# Altium footprint library samtec-tsm.PcbLib: 9 footprints
Each footprint in its own frame and in the unit in brackets; x right, y up, seen from the top. Pads: shape width x height; smd on the part's side, far side on the other; paste and mask are expansions set on the pad; w line width, h text height; cw(c..) or ccw(c..) is an arc to the next point about the centre after c.
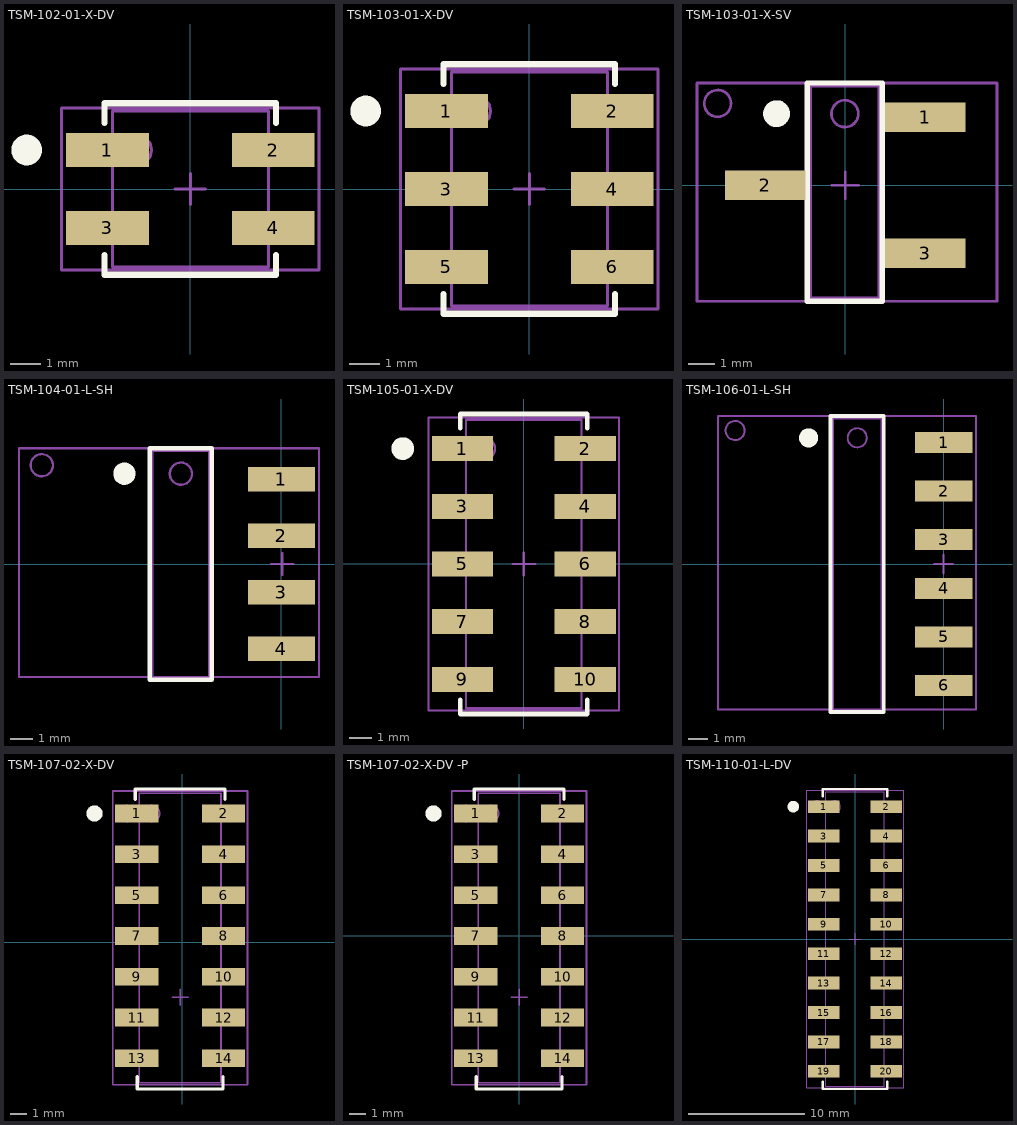
[diagram p0: the footprints below, top view; thin cyan lines are the x and y axes]

## TSM-102-01-X-DV [mm] "4pos, 2.54mm, SMT HEADER"
height 9.65
pads (4):
  rect 2.7x1.1 smd: 1(-2.7,1.27) 2(2.7,1.27) 3(-2.7,-1.27) 4(2.7,-1.27)
Top Overlay:
  circle w0.5: c-5.33,1.27 r0.25
  lines w0.2: -2.794,-2.159 -2.794,-2.794 2.794,-2.794 2.794,-2.159 ; -2.794,2.159 -2.794,2.794 2.794,2.794 2.794,2.159
Mechanical 13:
  circle w0.1: c-1.77,1.27 r0.5
  lines w0.1: -0.5,0 0.5,0 ; 0,-0.5 0,0.5 ; -2.54,-2.54 -2.54,2.54 2.54,2.54 2.54,-2.54 -2.54,-2.54
Mechanical 15:
  circle w0.1: c-3.294,1.27 r0.5
  lines w0.1: -4.191,-2.64 -4.191,2.64 4.191,2.64 4.191,-2.64 -4.191,-2.64
  text ".Designator" at 0.1,-2.4 h0.5
3D body: height 9.67, standoff 0.02, extent -3.848,-2.54 3.848,2.54

## TSM-103-01-X-DV [mm] "6pos, 2.54mm, SMT HEADER"
height 9.65
pads (6):
  rect 2.7x1.1 smd: 1(-2.7,2.54) 2(2.7,2.54) 3(-2.7,0) 4(2.7,0) 5(-2.7,-2.54) 6(2.7,-2.54)
Top Overlay:
  circle w0.5: c-5.33,2.54 r0.25
  lines w0.2: -2.794,-3.429 -2.794,-4.064 2.794,-4.064 2.794,-3.429 ; -2.794,3.429 -2.794,4.064 2.794,4.064 2.794,3.429
Mechanical 13:
  circle w0.1: c-1.77,2.54 r0.5
  lines w0.1: -0.5,0 0.5,0 ; 0,-0.5 0,0.5 ; -2.54,-3.81 -2.54,3.81 2.54,3.81 2.54,-3.81 -2.54,-3.81
Mechanical 15:
  circle w0.1: c-3.294,2.54 r0.5
  lines w0.1: -4.191,-3.91 -4.191,3.91 4.191,3.91 4.191,-3.91 -4.191,-3.91
  text ".Designator" at 0.1,-2.4 h0.5
3D body: height 9.67, standoff 0.02, extent -3.848,-3.81 3.848,3.81

## TSM-103-01-X-SV [mm] "4pos, 2.54mm, SMT HEADER"
height 3.05
pads (3):
  rect 3x1.1 smd: 1(2.984,2.54) 2(-2.984,0) 3(2.984,-2.54)
Top Overlay:
  circle w0.5: c-2.559,2.667 r0.25
  lines w0.2: -1.421,-4.318 1.373,-4.318 1.373,3.81 -1.421,3.81 -1.421,-4.318
Mechanical 13:
  circle w0.1: c-0.015,2.667 r0.5
  lines w0.1: -0.5,0 0.5,0 ; 0,-0.5 0,0.5 ; -1.294,-4.191 1.246,-4.191 1.246,3.683 -1.294,3.683 -1.294,-4.191
Mechanical 15:
  circle w0.1: c-4.754,3.048 r0.5
  lines w0.1: -5.524,-4.318 5.651,-4.318 5.651,3.81 -5.524,3.81 -5.524,-4.318
  text ".Designator" at 0.064,-4.191 h0.5
3D body: height 9.67, standoff 0.02, extent -3.683,-3.937 3.683,3.683

## TSM-104-01-L-SH [mm] "4pos, 2.54mm, SMT HEADER"
height 3.05
pads (4):
  rect 3x1.1 smd: 1(0,3.81) 2(0,1.27) 3(0,-1.27) 4(0,-3.81)
Top Overlay:
  circle w0.5: c-7.068,4.064 r0.25
  lines w0.2: -5.929,-5.207 -3.135,-5.207 -3.135,5.207 -5.929,5.207 -5.929,-5.207
Mechanical 13:
  circle w0.1: c-4.524,4.064 r0.5
  lines w0.1: -0.46,0 0.54,0 ; 0.04,-0.5 0.04,0.5 ; -5.802,-5.08 -3.262,-5.08 -3.262,5.08 -5.802,5.08 -5.802,-5.08
Mechanical 15:
  circle w0.1: c-10.787,4.445 r0.5
  lines w0.1: -11.811,-5.08 1.691,-5.08 1.691,5.207 -11.811,5.207 -11.811,-5.08
  text ".Designator" at -4.445,-2.794 h0.5
3D body: height 3.06, standoff 0.02, extent -11.644,-5.08 1.31,5.08

## TSM-105-01-X-DV [mm] "10pos, 2.54mm, SMT HEADER"
height 9.65
pads (10):
  rect 2.7x1.1 smd: 1(-2.7,5.08) 2(2.7,5.08) 3(-2.7,2.54) 4(2.7,2.54) 5(-2.7,0) 6(2.7,0) 7(-2.7,-2.54) 8(2.7,-2.54) 9(-2.7,-5.08) 10(2.7,-5.08)
Top Overlay:
  circle w0.5: c-5.33,5.08 r0.25
  lines w0.2: -2.794,-5.969 -2.794,-6.604 2.794,-6.604 2.794,-5.969 ; -2.794,5.969 -2.794,6.604 2.794,6.604 2.794,5.969
Mechanical 13:
  circle w0.1: c-1.77,5.08 r0.5
  lines w0.1: -0.5,0 0.5,0 ; 0,-0.5 0,0.5 ; -2.54,-6.35 2.54,-6.35 2.54,6.35 -2.54,6.35 -2.54,-6.35
Mechanical 15:
  circle w0.1: c-3.294,5.08 r0.5
  lines w0.1: -4.191,-6.45 4.191,-6.45 4.191,6.45 -4.191,6.45 -4.191,-6.45
  text ".Designator" at 0.1,-2.4 h0.5
3D body: height 9.67, standoff 0.02, extent -3.848,-6.35 3.848,6.35

## TSM-106-01-L-SH [mm] "6pos, 2.54mm, SMT HEADER"
height 3.05
pads (6):
  rect 3x1.1 smd: 1(0,6.35) 2(0,3.81) 3(0,1.27) 4(0,-1.27) 5(0,-3.81) 6(0,-6.35)
Top Overlay:
  circle w0.5: c-7.068,6.604 r0.25
  lines w0.2: -5.929,-7.747 -3.135,-7.747 -3.135,7.747 -5.929,7.747 -5.929,-7.747
Mechanical 13:
  circle w0.1: c-4.524,6.604 r0.5
  lines w0.1: -0.5,0 0.5,0 ; 0,-0.5 0,0.5 ; -5.802,-7.62 -3.262,-7.62 -3.262,7.62 -5.802,7.62 -5.802,-7.62
Mechanical 15:
  circle w0.1: c-10.914,6.985 r0.5
  lines w0.1: -11.811,-7.62 1.691,-7.62 1.691,7.747 -11.811,7.747 -11.811,-7.62
  text ".Designator" at -4.445,-2.794 h0.5
3D body: height 3.06, standoff 0.02, extent -11.684,-7.62 1.27,7.62

## TSM-107-02-X-DV [mm] "14pos, 2.54mm, SMT HEADER"
height 9.65
pads (14):
  rect 2.7x1.1 smd: 1(-2.827,8.001) 2(2.573,8.001) 3(-2.827,5.461) 4(2.573,5.461) 5(-2.827,2.921) 6(2.573,2.921) 7(-2.827,0.381) 8(2.573,0.381) 9(-2.827,-2.159) 10(2.573,-2.159) 11(-2.827,-4.699) 12(2.573,-4.699) 13(-2.827,-7.239) 14(2.573,-7.239)
Top Overlay:
  circle w0.5: c-5.457,8.001 r0.25
  lines w0.2: -2.921,8.89 -2.921,9.525 2.667,9.525 2.667,8.89 ; -2.794,-8.382 -2.794,-9.144 2.54,-9.144 2.54,-8.382
Mechanical 13:
  circle w0.1: c-1.897,8.001 r0.5
  lines w0.1: -0.627,-3.429 0.373,-3.429 ; -0.127,-3.929 -0.127,-2.929 ; -2.667,-8.763 2.413,-8.763 2.413,9.271 -2.667,9.271 -2.667,-8.763
Mechanical 15:
  circle w0.1: c-3.421,8.001 r0.5
  lines w0.1: -4.318,-8.89 4.064,-8.89 4.064,9.398 -4.318,9.398 -4.318,-8.89
  text ".Designator" at 0.023,-5.079 h0.5
3D body: height 11.95, standoff 0.02, extent -3.81,-8.509 3.556,9.271

## TSM-107-02-X-DV -P [mm] "14pos, 2.54mm, SMT HEADER"
height 9.65
pads (14):
  rect 2.7x1.1 smd: 1(-2.7,7.62) 2(2.7,7.62) 3(-2.7,5.08) 4(2.7,5.08) 5(-2.7,2.54) 6(2.7,2.54) 7(-2.7,0) 8(2.7,0) 9(-2.7,-2.54) 10(2.7,-2.54) 11(-2.7,-5.08) 12(2.7,-5.08) 13(-2.7,-7.62) 14(2.7,-7.62)
Top Overlay:
  circle w0.5: c-5.33,7.62 r0.25
  lines w0.2: -2.794,8.509 -2.794,9.144 2.794,9.144 2.794,8.509 ; -2.667,-8.763 -2.667,-9.525 2.667,-9.525 2.667,-8.763
Mechanical 13:
  circle w0.1: c-1.77,7.62 r0.5
  lines w0.1: -0.5,-3.81 0.5,-3.81 ; 0,-4.31 0,-3.31 ; -2.54,-9.144 -2.54,8.89 2.54,8.89 2.54,-9.144 -2.54,-9.144
Mechanical 15:
  circle w0.1: c-3.294,7.62 r0.5
  lines w0.1: -4.191,-9.271 -4.191,9.017 4.191,9.017 4.191,-9.271 -4.191,-9.271
  text ".Designator" at 0.15,-5.46 h0.5
3D body: height 13.22, standoff 0.02, extent -3.81,-8.89 3.555,8.89

## TSM-110-01-L-DV [mm] "20pos, 2.54mm, SMT HEADER"
height 9.65
pads (20):
  rect 2.7x1.1 smd: 1(-2.7,11.43) 2(2.7,11.43) 3(-2.7,8.89) 4(2.7,8.89) 5(-2.7,6.35) 6(2.7,6.35) 7(-2.7,3.81) 8(2.7,3.81) 9(-2.7,1.27) 10(2.7,1.27) 11(-2.7,-1.27) 12(2.7,-1.27) 13(-2.7,-3.81) 14(2.7,-3.81) 15(-2.7,-6.35) 16(2.7,-6.35) 17(-2.7,-8.89) 18(2.7,-8.89) 19(-2.7,-11.43) 20(2.7,-11.43)
Top Overlay:
  circle w0.5: c-5.33,11.43 r0.25
  lines w0.2: -2.794,-12.319 -2.794,-12.954 2.794,-12.954 2.794,-12.319 ; -2.794,12.319 -2.794,12.954 2.794,12.954 2.794,12.319
Mechanical 13:
  circle w0.1: c-1.77,11.43 r0.5
  lines w0.1: -0.5,0 0.5,0 ; 0,-0.5 0,0.5 ; -2.54,-12.7 -2.54,12.7 2.54,12.7 2.54,-12.7 -2.54,-12.7
Mechanical 15:
  circle w0.1: c-3.294,11.43 r0.5
  lines w0.1: -4.191,-12.827 -4.191,12.827 4.191,12.827 4.191,-12.827 -4.191,-12.827
  text ".Designator" at 0.15,-1.65 h0.5
3D body: height 9.86, standoff 0, extent -3.683,-12.7 3.683,12.7